# Altium schematic symbol library DRV8833.SchLib: 1 symbol
Pins are listed as number, name and electrical type; pins without a type are passive.

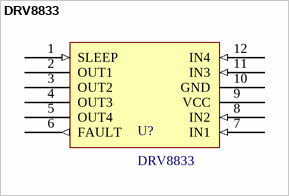
[diagram p0: symbol DRV8833]

## DRV8833
designator U?
1.5A 2-Channel DC Motor Drive Board Ultra Small Volume Motor Drive Module Input Voltage 3 to 10V
footprint PCBComponent_1
pins: 1 SLEEP (in), 2 OUT1, 3 OUT2, 4 OUT3, 5 OUT4, 6 FAULT (out), 7 IN1 (in), 8 IN2 (in), 9 VCC (power), 10 GND (power), 11 IN3 (in), 12 IN4 (in)